# Altium schematic symbol library VL6180XV0NR_1.SchLib: 1 symbol
Pins are listed as number, name and electrical type; pins without a type are passive.

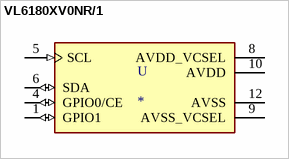
[diagram p0: symbol VL6180XV0NR/1]

## VL6180XV0NR/1
designator U
Optical Sensor Ambient IÂ²C 12-SMD Module; MP: VL6180XV0NR/1; MF: STMicroelectronics; SnapEDA_Link: https://www.snapeda.com/parts/VL6180XV0NR/1/STMicroelectronics/view-part/214463/?ref=snap; Price: None; Availability: Unavailable; Value: *; Package: SMD-12 STMicroelectronics
footprint LGA12R75P2X6_280X480X110
pins: 1 GPIO1 (io), 4 GPIO0/CE (io), 5 SCL (in), 6 SDA (io), 8 AVDD_VCSEL (power), 9 AVSS_VCSEL (power), 10 AVDD (power), 12 AVSS (power)